# EAGLE library part LSM303-BRKOUT (library SPEAR-science-controller)
LSM303 Breakout LSM303 Magnetometer+Accelerometer breakout board from Adafruit. Product Page <https://www.adafruit.com/product/1120> Datasheet <https://www.st.com/resource/en/datasheet/DM00027543.pdf>
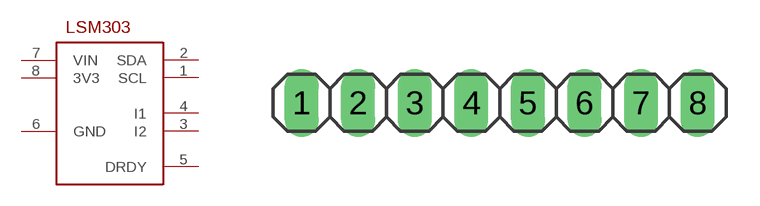
[diagram p1: symbol with the pads of 1X08; footprint 1X08]

Designator prefix -

## LSM303-BRKOUT  [1X08]
1  SCL
2  SDA
3  I2
4  I1
5  DRDY
6  GND
7  VIN
8  3V3

## Footprint 1X08 (pad centres in mm)
PIN HEADER
drill 1.016 long: 1 -8.89,0; 2 -6.35,0; 3 -3.81,0; 4 -1.27,0; 5 1.27,0; 6 3.81,0; 7 6.35,0; 8 8.89,0